# Altium schematic symbol library RFI EMI Contacts Fingerstock Gaskets.SchLib: 1 symbol
Pins are listed as number, name and electrical type; pins without a type are passive.

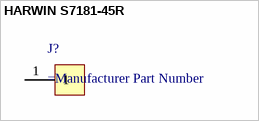
[diagram p0: symbol HARWIN S7181-45R]

## HARWIN S7181-45R
designator J?
MF: {'manufacturer': u'Harwin Inc.'}; MP: S7181-45R; Package: None; Price: None; Value: *; Availability: Unavailable
footprint HARWIN S7181-45R (RFI SHLD FINGER PHOS GOLD SOLDER)
pins: 1